# EAGLE library part MAX4885E (library WakamelibGOOD)
MAX4885E vga companion
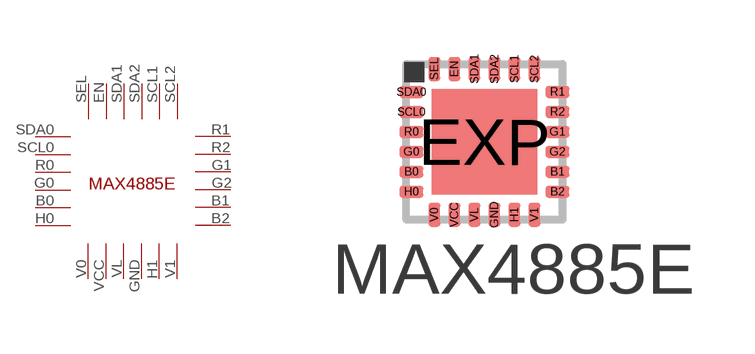
[diagram p3: symbol with the pads of TQFN24-EP; footprint TQFN24-EP]

Designator prefix -

## MAX4885E  [TQFN24-EP]
B0  P$5
B1  P$14
B2  P$13
EN  P$23
G0  P$4
G1  P$16
G2  P$15
GND  P$10
H0  P$6
H1  P$11
R0  P$3
R1  P$18
R2  P$17
SCL0  P$2
SCL1  P$20
SCL2  P$19
SDA0  P$1
SDA1  P$22
SDA2  P$21
SEL  P$24
V0  P$7
V1  P$12
VCC  P$8
VL  P$9

## Footprint TQFN24-EP (pad centres in mm)
24 TQFN-EP 24 T2444-4 Source: http://datasheets.maxim-ic.com/en/ds/MAX4947-MAX4948.pdf
smd 0.6 x 0.3: B0 -1.825,-0.75; B1 1.825,-0.75; B2 1.825,-1.25; G0 -1.825,-0.25; G1 1.825,0.25; G2 1.825,-0.25; H0 -1.825,-1.25; R0 -1.825,0.25; R1 1.825,1.25; R2 1.825,0.75; SCL0 -1.825,0.75; SDA0 -1.825,1.25
smd 0.3 x 0.6: EN -0.75,1.825; GND 0.25,-1.825; H1 0.75,-1.825; SCL1 0.75,1.825; SCL2 1.25,1.825; SDA1 -0.25,1.825; SDA2 0.25,1.825; SEL -1.25,1.825; V0 -1.25,-1.825; V1 1.25,-1.825; VCC -0.75,-1.825; VL -0.25,-1.825
smd 2.63 x 2.63: EXP 0,0